# Altium schematic symbol library Subutai_Router.SCHLIB: 10 symbols
Pins are listed as number, name and electrical type; pins without a type are passive.

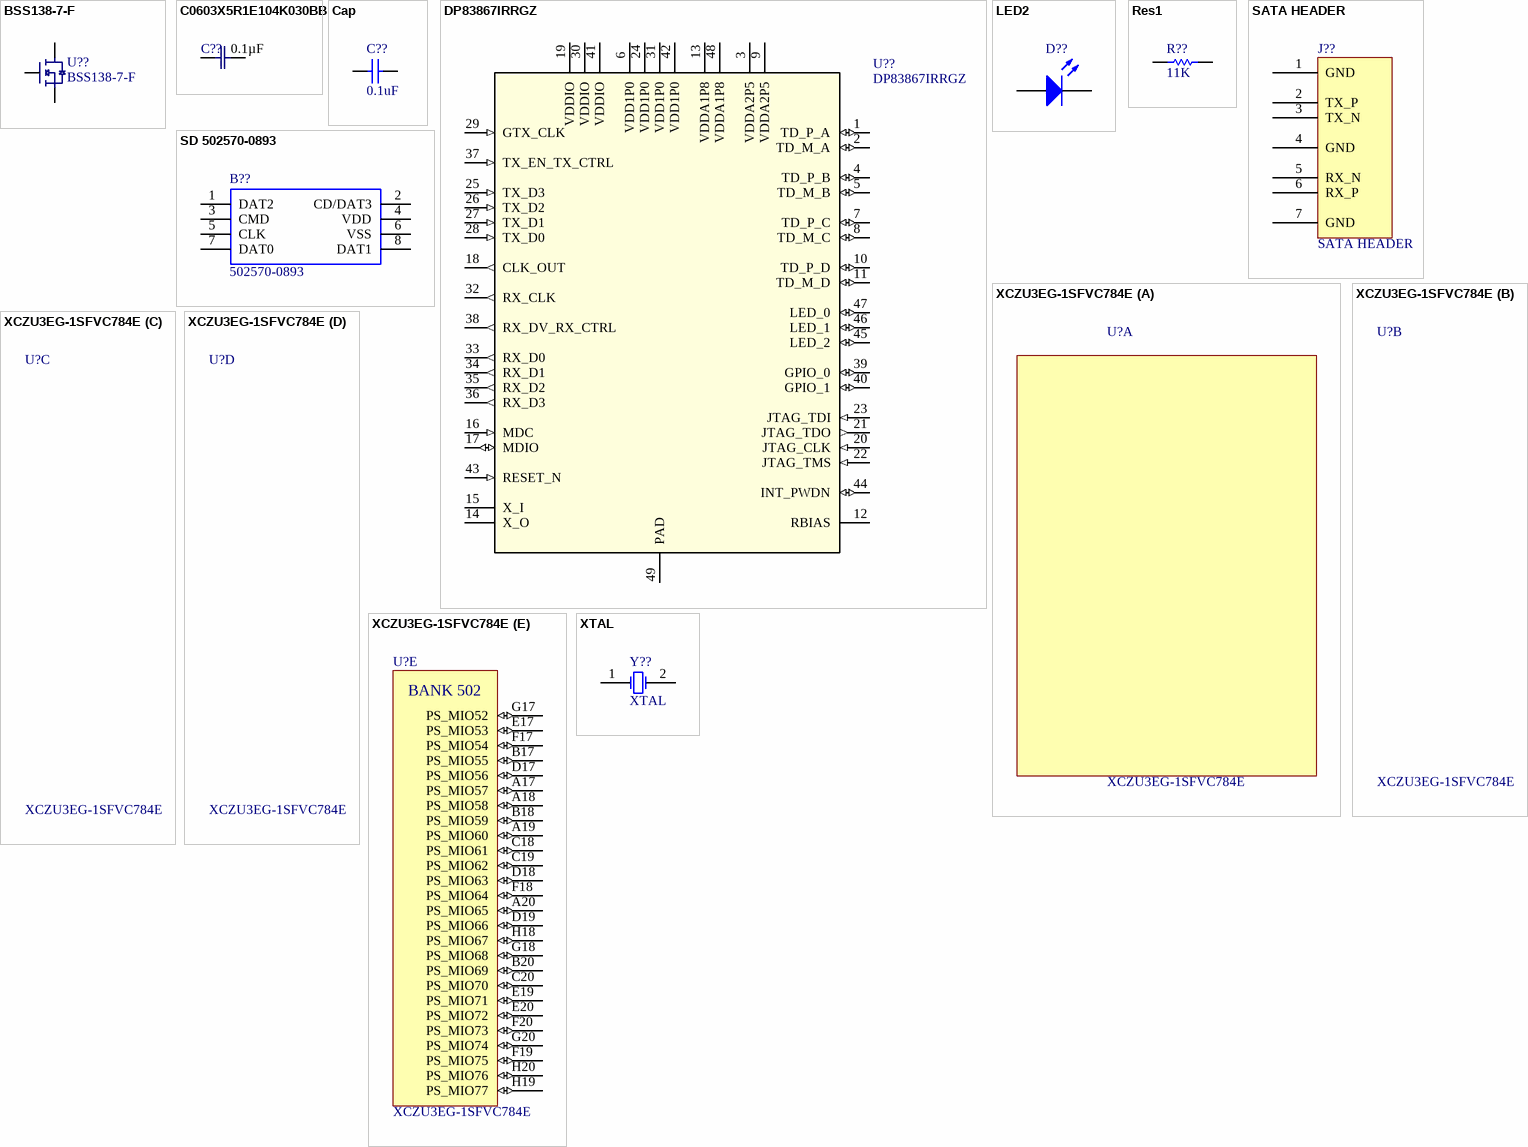
[diagram p0: symbols BSS138-7-F to XTAL]

## BSS138-7-F
designator U??
pins: 1, 1, 1

## C0603X5R1E104K030BB
designator C??  value 0.1µF  (hidden comment: C0603X5R1E104K030BB)
CAP CER 0.1UF 25V 10% X5R 0201; Manufacturer: TDK Corporation; Detailed Description: 0.1µF ±10% 25V Ceramic Capacitor X5R 0201 (0603 Metric); Manufacturer_Part_Number: C0603X5R1E104K030BB; Digi-Key Part Number: 445-13671-1-ND; Tolerance: ±10%; Voltage - Rated: 25V; Temperature Coefficient: X5R; Operating Temperature: -55°C ~ 85°C; Features: Low ESL; Applications: General Purpose; Mounting Type: Surface Mount, MLCC
footprint CAP_0603
pins: 1, 2

## Cap
designator C??  value 0.1uF  (hidden comment: Cap)
Capacitor; Published: 8-Jun-2000; LatestRevisionDate: 17-Jul-2002; LatestRevisionNote: Re-released for DXP Platform.; PackageReference: RAD-0.3; Publisher: Altium Limited; PackageDescription: Radial Cap, Thru-Hole; 2 Leads; 0.3 in Pin Spacing
footprint RAD-0.3 (Radial Cap, Thru-Hole; 2 Leads; 0.3 in Pin Spacing)
simulation model CAP (Capacitor)
signal-integrity model Cap
pins: 1, 2

## DP83867IRRGZ
designator U??
Ethernet 10/100/1000 Base-TX PHY; Manufacturer: Texas Instruments; Manufacturer Part Number: DP83867IRRGZR; Function: Physical Layer Controller; Interface: Serial; Voltage-Supply: 1.1V, 2.5V; Current-Supply: 157mA; Detailed Description: Ethernet Physical Layer Controller 10/100/1000 Base-TX PHY Serial Interface 48-VQFN (7x7); Protocol: Ethernet; Standards: 10/100/1000 Base-TX PHY; Operating Temperature: -40 ~85 C; Package/Case: 48-VFQFN Exposed Pad; Supplier Device Package: 48-VQFN (7x7); Digi-Key part Number: DP83867IRRGZR-ND; Mount Type: SMT
pins: 1 TD_P_A (io), 2 TD_M_A (io), 3 VDDA2P5 (power), 4 TD_P_B (io), 5 TD_M_B (io), 6 VDD1P0 (power), 7 TD_P_C (io), 8 TD_M_C (io), 9 VDDA2P5 (power), 10 TD_P_D (io), 11 TD_M_D (io), 12 RBIAS, 13 VDDA1P8 (power), 14 X_O, 15 X_I, 16 MDC (in), 17 MDIO (io), 18 CLK_OUT (out), 19 VDDIO (power), 20 JTAG_CLK (in), 21 JTAG_TDO (out), 22 JTAG_TMS (in), 23 JTAG_TDI (in), 24 VDD1P0 (power), 25 TX_D3 (in), 26 TX_D2 (in), 27 TX_D1 (in), 28 TX_D0 (in), 29 GTX_CLK (in), 30 VDDIO (power), 31 VDD1P0 (power), 32 RX_CLK (out), 33 RX_D0 (out), 34 RX_D1 (out), 35 RX_D2 (out), 36 RX_D3 (out), 37 TX_EN_TX_CTRL (in), 38 RX_DV_RX_CTRL (out), 39 GPIO_0 (io), 40 GPIO_1 (io), 41 VDDIO (power), 42 VDD1P0 (power), 43 RESET_N (in), 44 INT_PWDN (io), 45 LED_2 (io), 46 LED_1 (io), 47 LED_0 (io), 48 VDDA1P8 (power), 49 PAD (power)

## LED2
designator D??  (value not drawn)
Typical RED, GREEN, YELLOW, AMBER GaAs LED; Published: 8-Jun-2000; LatestRevisionDate: 17-Jul-2002; LatestRevisionNote: Re-released for DXP Platform.; PackageVersion: Feb-2002; PackageReference: 3.2X1.6X1.1; Publisher: Altium Limited; PackageDescription: SM LED; 2 Flat Leads
footprint 3.2X1.6X1.1 (SMT LED; 2 Flat Leads)
simulation model LED2 (Diode)
pins: 1 A, 2 K

## Res1
designator R??  value 11K  (hidden comment: Res1)
Resistor; Published: 8-Jun-2000; LatestRevisionDate: 17-Jul-2002; LatestRevisionNote: Re-released for DXP Platform.; PackageReference: AXIAL-0.3; Publisher: Altium Limited; PackageDescription: Axial Device, Thru-Hole; 2 Leads; 0.3 in Pin Spacing
footprint AXIAL-0.3 (Axial Device, Thru-Hole; 2 Leads; 0.3 in Pin Spacing)
simulation model RESISTOR (Resistor)
signal-integrity model Res
pins: 1, 2

## SATA HEADER
designator J??
CONN HEADER 7POS VERT SMD 15GOLD; Manufacturer: Molex, LLC; Manufacturer Part Number: 0678005005; Connector Style: Header, Shrouded; Number of Positions: 7; Digi-Key Part Number: WM19104-ND; Series: 67800; Part Status: Active; Connector Type: SATA; Mounting Type: Surface Mount; Termination: Solder; Features: Board Guide; Contact Finish: Gold; Contact Finish Thickness: 15µin (0.38µm)
footprint SATA HEADER
pins: 1 GND (power), 2 TX_P (power), 3 TX_N (power), 4 GND (power), 5 RX_N (power), 6 RX_P (power), 7 GND (power)

## SD 502570-0893
designator B??, comment 502570-0893
Micro SD card connector,SMT,push-push Micro SD card connector,SMT,push-push; Manufacturer_Name: Molex; Geometry.Height: mm; Detailed Description: 10 (8 + 2) Position Card Connector Secure Digital - microSD™ Surface Mount, Right Angle Gold; Card Type: Secure Digital - microSD™; Number of Positions: 10 (8 + 2); Connector Type: Connector and Ejector; Insertion, Removal Method: Push In, Push Out; Manufacturer_Part_Number: 502570-0893; Datasheet Link: http://www.molex.com/molex/products/datasheet.jsp?part=active/5025700893_MEMORY_CARD_SOCKET.xml; Digi-Key Part Number: WM19093CT-ND; Series: 502570; Mounting Type: Surface Mount, Right Angle; Features: Switch; Height Above Board: 0.071" (1.80mm); Mounting Feature: Normal, Standard - Top; Contact Finish: Gold; Contact Finish Thickness: 20µin (0.51µm)
footprint 502570-0893_1
pins: 1 DAT2, 2 CD/DAT3, 3 CMD, 4 VDD, 5 CLK, 6 VSS, 7 DAT0, 8 DAT1

## XCZU3EG-1SFVC784E
designator U?
part E pins: A17 PS_MIO57 (io), A18 PS_MIO58 (io), A19 PS_MIO60 (io), A20 PS_MIO65 (io), B17 PS_MIO55 (io), B18 PS_MIO59 (io), B20 PS_MIO69 (io), C18 PS_MIO61 (io), C19 PS_MIO62 (io), C20 PS_MIO70 (io), D17 PS_MIO56 (io), D18 PS_MIO63 (io), D19 PS_MIO66 (io), E17 PS_MIO53 (io), E19 PS_MIO71 (io), E20 PS_MIO72 (io), F17 PS_MIO54 (io), F18 PS_MIO64 (io), F19 PS_MIO75 (io), F20 PS_MIO73 (io), G17 PS_MIO52 (io), G18 PS_MIO68 (io), G20 PS_MIO74 (io), H18 PS_MIO67 (io), H19 PS_MIO77 (io), H20 PS_MIO76 (io)
part E text: BANK 502

## XTAL
designator Y??
Crystal Oscillator; Published: 8-Jun-2000; LatestRevisionDate: 17-Jul-2002; LatestRevisionNote: Re-released for DXP Platform.; PackageReference: R38; Publisher: Altium Limited; PackageDescription: Crystal, Thru-Hole; 2 Leads; Body 3.1 x 8.2 mm (Dia.xH)
footprint R38 (Crystal, Thru-Hole; 2 Leads; Body 3.1 x 8.2 mm (Dia.xH))
simulation model XTAL (Spice Subcircuit)
pins: 1 OSC1, 2 OSC2